# Altium footprint library res.PcbLib: 38 footprints (part 2 of 3)
Each footprint in its own frame and in the unit in brackets; x right, y up, seen from the top. Pads: shape width x height; smd on the part's side, far side on the other; paste and mask are expansions set on the pad; w line width, h text height; cw(c..) or ccw(c..) is an arc to the next point about the centre after c.
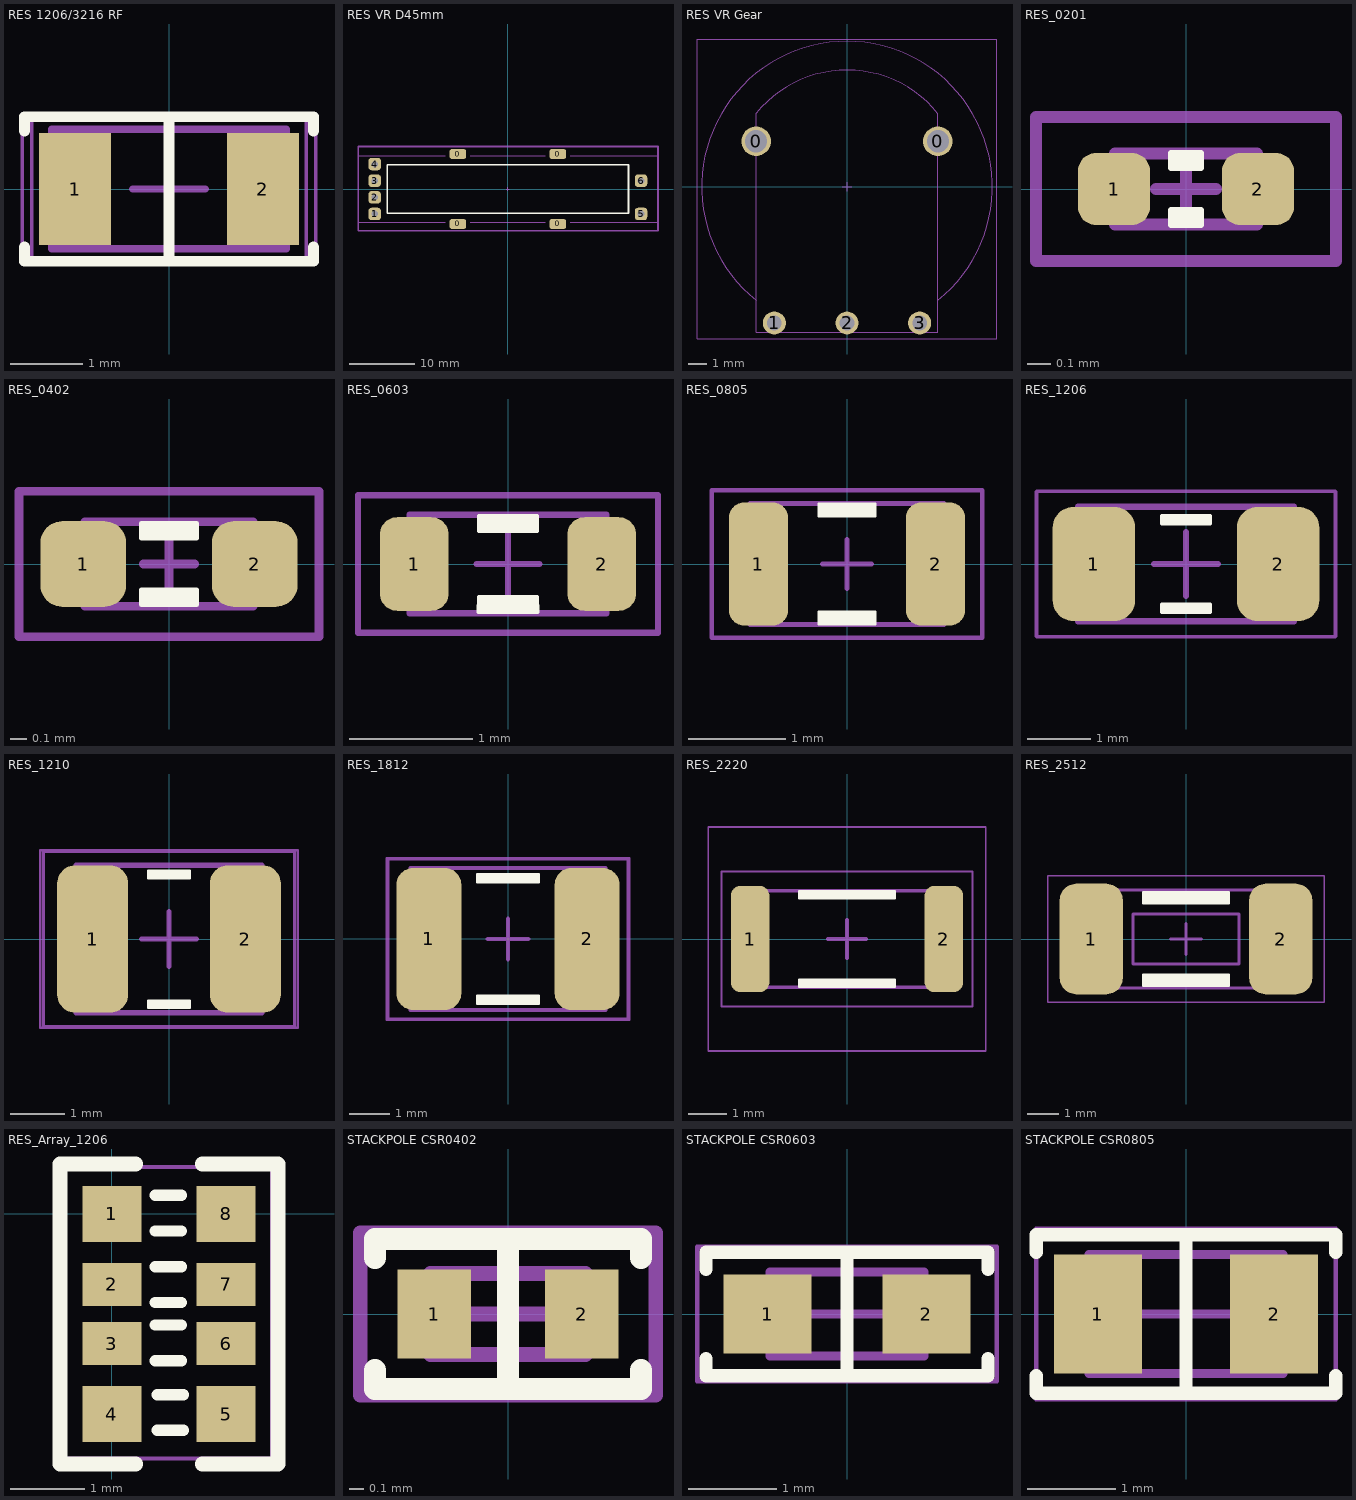
[diagram p1: the footprints below, top view; thin cyan lines are the x and y axes]

## RES 1206/3216 RF [mm] "Chip Resistor, 2-Leads, Body 3.13x1.55mm, IPC High Density"
height 0.7
pads (2):
  rect 1x1.55 smd: 1(-1.3,0) 2(1.3,0)
Top Overlay:
  lines w0.15: -2,-0.8 -2,-1 2,-1 2,-0.8 ; -2,0.8 -2,1 2,1 2,0.8 ; 0,-1 0,1
Mechanical 13:
  lines w0.1: -1.625,-0.825 -1.625,0.825 1.625,0.825 1.625,-0.825 -1.625,-0.825
Top Component:
  lines w0.051: -2.032,-1.016 2.032,-1.016 2.032,1.016 -2.032,1.016 -2.032,-1.016
  text ".Designator" at -0.508,-0.33 h1.52
Comment:
  lines w0.051: -2.032,-1.016 -2.032,1.016 2.032,1.016 2.032,-1.016 -2.032,-1.016
  text "'.Comment'" at -0.508,-0.33 h1.52
Component Center:
  lines w0.05: -1.9,-0.95 -1.9,0.95 1.9,0.95 1.9,-0.95 -1.9,-0.95
  lines w0.1: -0.5,0 0.5,0 ; 0,-0.5 0,0.5
3D body "1206 resistor.STEP": height 0.63, standoff 0.03, extent -1.575,-0.8 1.625,0.8

## RES VR D45mm [mil]
pads (10):
  rrect50% 100x60 smd: 0(-300,-210) 0(-300,210) 0(300,-210) 0(300,210)
  rrect50% 75x75 hole 39.37: 1(-800,-150) 2(-800,-50) 3(-800,50) 4(-800,150) 5(800,-150) 6(800,50)
Top Overlay:
  lines w10: -725,-145 725,-145 725,145 -725,145 -725,-145
Mechanical 13:
  lines w2: -10,0 10,0 ; 0,-10 0,10
  lines w4: -375,-200 -900,-200 -900,200 -375,200 ; -225,-200 225,-200 ; -225,200 225,200 ; 375,-200 900,-200 900,200 375,200
Top Component:
  lines w10: -899,-250 -899,255 902,255 902,-250 -899,-250
  text ".Designator" at -80,-52 h200

## RES VR Gear [mm]
height 0.7
pads (5):
  round 1.626 hole 1.219: 0(-5,2.5) 0(5,2.5)
  round 1.27 hole 0.813: 1(-4,-7.5) 2(0,-7.5) 3(4,-7.5)
Mechanical 13:
  lines w0.051: -5.001,-6.244 cw(c0,0) 5.001,-6.244 ; -5,4.033 -5,-8.001 5,-8.001 5,4.016 ; -4.996,4.029 cw(c0,0) 5.004,4.019 ; -0.254,0 0.254,0 ; 0,-0.254 0,0.254
Top Component:
  lines w0.051: -8.255,-8.382 -8.255,8.128 8.255,8.128 8.255,-8.382 -8.255,-8.382
  text ".Designator" at -2.083,-1.422 h5.08

## RES_0201 [mil]
height 9.06
pads (2):
  rrect50% 12x12 smd: 1(-12,0) 2(12,0)
Top Overlay:
  region: 2.5,-6 -2.5,-6 -2.5,-3.5 2.5,-3.5
  region: -2.5,6 2.5,6 2.5,3.5 -2.5,3.5
  lines w1: -2.5,-6 -2.5,-3.5 2.5,-3.5 2.5,-6 -2.5,-6 ; -2.5,3.5 -2.5,6 2.5,6 2.5,3.5 -2.5,3.5
Mechanical 13:
  lines w2: -5,0 5,0 ; 0,-5 0,5 ; -11.81,-5.91 -11.81,5.91 11.81,5.91 11.81,-5.91 -11.81,-5.91
Top Component:
  lines w2: -25,-12 -25,12 25,12 25,-12 -25,-12
  text ".Designator" at -8,-5 h20
3D body "0201-Resistors.step": height 11.55, standoff 1.51, extent -12.79,-6.39 12.8,6.4

## RES_0402 [mil]
height 13.78
pads (2):
  rrect50% 20x20 smd: 1(-20,0) 2(20,0)
Top Overlay:
  region: -6.5,9.5 6.5,9.5 6.5,6 -6.5,6
  region: 6.5,-9.5 -6.5,-9.5 -6.5,-6 6.5,-6
  lines w1: -6.5,-9.5 -6.5,-6 6.5,-6 6.5,-9.5 -6.5,-9.5 ; -6.5,6 6.5,6 6.5,9.5 -6.5,9.5 -6.5,6
Mechanical 13:
  lines w2: -6,0 6,0 ; 0,-6 0,6 ; -19.69,-9.84 19.68,-9.84 19.68,9.84 -19.69,9.84 -19.69,-9.84
Top Component:
  lines w2: -35,-17 -35,17 35,17 35,-17 -35,-17
  text ".Designator" at -12,-8 h30
3D body "0402-Resistors.step": height 16.27, standoff 1.51, extent -19.78,-10.33 19.79,10.34

## RES_0603 [mil]
height 17.72
pads (2):
  rrect50% 22x30 smd: 1(-30,0) 2(30,0)
Top Overlay:
  region: 9.5,-15.5 -9.5,-15.5 -9.5,-10.5 9.5,-10.5
  region: -9.5,15.5 9.5,15.5 9.5,10.5 -9.5,10.5
  lines w1: -9.5,-15.5 -9.5,-10.5 9.5,-10.5 9.5,-15.5 -9.5,-15.5 ; -9.5,10.5 9.5,10.5 9.5,15.5 -9.5,15.5 -9.5,10.5
Mechanical 13:
  lines w2: -10,0 10,0 ; 0,-10 0,10 ; -31.5,-15.75 31.5,-15.75 31.5,15.75 -31.5,15.75 -31.5,-15.75
Top Component:
  lines w2: -48,-22 -48,22 48,22 48,-22 -48,-22
  text ".Designator" at -16,-11 h40
3D body "0603-Resistors.step": height 20.21, standoff 1.51, extent -31.57,-16.23 31.58,16.25

## RES_0805 [mil]
height 23.62
pads (2):
  rrect50% 24x50 smd: 1(-36,0) 2(36,0)
Top Overlay:
  region: 11.5,-24.5 -11.5,-24.5 -11.5,-19.5 11.5,-19.5
  region: -11.5,24.5 11.5,24.5 11.5,19.5 -11.5,19.5
  lines w1: -11.5,-24.5 11.5,-24.5 11.5,-19.5 -11.5,-19.5 -11.5,-24.5 ; -11.5,19.5 -11.5,24.5 11.5,24.5 11.5,19.5 -11.5,19.5
Mechanical 13:
  lines w2: -10,0 10,0 ; 0,-10 0,10 ; -39.37,-24.61 39.37,-24.61 39.37,24.61 -39.37,24.61 -39.37,-24.61
Top Component:
  lines w2: -55,-30 -55,30 55,30 55,-30 -55,-30
  text ".Designator" at -24,-16 h60
3D body "0805-Resistors.step": height 26.11, standoff 1.51, extent -39.43,-25.09 39.44,25.1

## RES_1206 [mm]
pads (2):
  rrect50% 1.3x1.8 smd: 1(-1.45,0) 2(1.45,0)
Top Overlay:
  region: 0.381,-0.635 -0.381,-0.635 -0.381,-0.762 0.381,-0.762
  region: -0.381,0.635 0.381,0.635 0.381,0.762 -0.381,0.762
  lines w0.051: -0.381,-0.762 0.381,-0.762 0.381,-0.635 -0.381,-0.635 -0.381,-0.762 ; -0.381,0.635 -0.381,0.762 0.381,0.762 0.381,0.635 -0.381,0.635
Mechanical 13:
  lines w0.1: -1.7,-0.9 1.7,-0.9 1.7,0.9 -1.7,0.9 -1.7,-0.9
Top Component:
  lines w0.051: -2.362,-1.143 -2.362,1.143 2.362,1.143 2.362,-1.143 -2.362,-1.143
  text ".Designator" at -0.813,-0.559 h2.03
Component Center:
  lines w0.05: -2.35,-1.15 -2.35,1.15 2.35,1.15 2.35,-1.15 -2.35,-1.15
  lines w0.1: -0.5,0 0.5,0 ; 0,-0.5 0,0.5
3D body "1206-Resistors.step": height 0.66, standoff 0.04, extent -1.602,-0.812 1.602,0.813

## RES_1210 [mm]
pads (2):
  rrect50% 1.3x2.7 smd: 1(-1.4,0) 2(1.4,0)
Top Overlay:
  region: -0.381,1.118 0.381,1.118 0.381,1.245 -0.381,1.245
  region: 0.381,-1.13 -0.381,-1.13 -0.381,-1.257 0.381,-1.257
  lines w0.051: -0.381,-1.257 -0.381,-1.13 0.381,-1.13 0.381,-1.257 -0.381,-1.257 ; -0.381,1.118 0.381,1.118 0.381,1.245 -0.381,1.245 -0.381,1.118
Mechanical 13:
  lines w0.1: -1.7,-1.35 -1.7,1.35 1.7,1.35 1.7,-1.35 -1.7,-1.35
Top Component:
  lines w0.051: -2.362,-1.626 -2.362,1.626 2.362,1.626 2.362,-1.626 -2.362,-1.626
  text ".Designator" at -0.813,-0.559 h2.03
Component Center:
  lines w0.05: -2.3,-1.6 2.3,-1.6 2.3,1.6 -2.3,1.6 -2.3,-1.6
  lines w0.1: -0.5,0 0.5,0 ; 0,-0.5 0,0.5
3D body "1210-Resistors.step": height 0.66, standoff 0.04, extent -1.602,-1.262 1.602,1.263

## RES_1812 [mm]
pads (2):
  rrect50% 1.6x3.5 smd: 1(-1.95,0) 2(1.95,0)
Top Overlay:
  region: -0.762,1.397 -0.762,1.6 0.762,1.6 0.762,1.397
  region: -0.762,-1.397 -0.762,-1.6 0.762,-1.6 0.762,-1.397
  lines w0.051: -0.762,-1.6 -0.762,-1.397 0.762,-1.397 0.762,-1.6 -0.762,-1.6 ; -0.762,1.397 0.762,1.397 0.762,1.6 -0.762,1.6 -0.762,1.397
Mechanical 13:
  lines w0.1: -2.4,-1.75 -2.4,1.75 2.4,1.75 2.4,-1.75 -2.4,-1.75
Top Component:
  lines w0.051: -2.946,-1.956 -2.946,1.956 2.946,1.956 2.946,-1.956 -2.946,-1.956
  text ".Designator" at -0.813,-0.559 h2.03
Component Center:
  lines w0.05: -3,-2 -3,2 3,2 3,-2 -3,-2
  lines w0.1: -0.5,0 0.5,0 ; 0,-0.5 0,0.5
3D body "1812-Resistors.step": height 0.66, standoff 0.04, extent -2.252,-1.612 2.252,1.613

## RES_2220 [mil]
pads (2):
  rrect50% 40x110 smd: 1(-100.39,0) 2(100.39,0)
Top Overlay:
  region: -50,-42 50,-42 50,-50 -50,-50
  region: -50,42 50,42 50,50 -50,50
  lines w2: -50,-50 50,-50 50,-42 -50,-42 -50,-50 ; -50,42 -50,50 50,50 50,42 -50,42
Mechanical 13:
  lines w3.94: -98,-50 99,-50 99,50 -98,50 -98,-50
Top Component:
  lines w2: -130,-70 -130,70 130,70 130,-70 -130,-70
  text ".Designator" at -32,-22 h80
Component Center:
  lines w1.97: -143.7,-116.14 143.7,-116.14 143.7,116.14 -143.7,116.14 -143.7,-116.14
  lines w3.94: -19.68,0 19.68,0 ; 0,-19.69 0,19.68
3D body "2010Resistors.step": height 24.11, standoff -0.49, extent -98.48,-49.7 98.5,49.71

## RES_2512 [mil]
pads (2):
  rrect50% 80x140 smd: 1(-120.01,0) 2(120,0)
Top Overlay:
  region: 55,-45 55,-60 -55,-60 -55,-45
  region: 55,45 55,60 -55,60 -55,45
  lines w2: -55,-60 -55,-45 55,-45 55,-60 -55,-60 ; -55,45 55,45 55,60 -55,60 -55,45
Mechanical 13:
  lines w3.94: -137,-62 136.62,-62 136.62,62 -137,62 -137,-62
Top Component:
  lines w2: -175,-80 -175,80 175,80 175,-80 -175,-80
  text ".Designator" at -32,-22 h80
Component Center:
  lines w3.94: -19.68,0 19.69,0 ; 0,-19.68 0,19.69 ; -66.93,-31.5 66.93,-31.5 66.93,31.5 -66.93,31.5 -66.93,-31.5
3D body "2512-Resistors.step": height 26.11, standoff 1.51, extent -126.05,-63.48 126.05,63.49

## RES_Array_1206 [mm]
pads (8):
  rect 0.8x0.75 smd: 1(0,0) 4(0,-2.7) 5(1.54,-2.7) 8(1.54,0)
  rect 0.8x0.58 smd: 2(0,-0.95) 3(0,-1.75) 6(1.54,-1.75) 7(1.54,-0.95)
Top Overlay:
  lines w0.152: -0.7,0.649 -0.7,0.675 ; 0.584,-1.981 0.94,-1.981 ; 0.584,-1.499 0.94,-1.499 ; 0.584,-1.194 0.94,-1.194 ; 0.584,-0.711 0.94,-0.711 ; 0.584,-0.229 0.94,-0.229 ; 0.584,0.254 0.94,0.254 ; 0.61,-2.921 0.965,-2.921 ; 0.61,-2.438 0.965,-2.438
  lines w0.2: 0.32,-3.375 -0.7,-3.375 -0.7,0.675 0.32,0.675 ; 1.22,-3.375 2.24,-3.375 2.24,0.675 1.22,0.675
Top Component:
  lines w0.051: -0.635,-3.302 -0.635,0.635 2.159,0.635 2.159,-3.302 -0.635,-3.302
  text ".Designator" at 1.041,-1.778 h1.02
3D body "User Library-R1206-4R.step": height 0.59, standoff 0.01, extent -0.013,-2.946 1.587,0.254

## STACKPOLE CSR0402 [mm] "Chip Resistor, 2-Leads, Body 1.0x0.5mm, IPC Medium Density"
height 0.4
pads (2):
  rect 0.5x0.6 smd: 1(-0.5,0) 2(0.5,0)
Top Overlay:
  lines w0.15: -0.9,-0.381 -0.9,-0.508 0.9,-0.508 0.9,-0.381 ; -0.9,0.381 -0.9,0.508 0.9,0.508 0.9,0.381 ; 0,-0.508 0,0.508
Mechanical 13:
  lines w0.1: -0.525,-0.275 -0.525,0.275 0.525,0.275 0.525,-0.275 -0.525,-0.275
Top Component:
  lines w0.051: -1.016,-0.559 1.016,-0.559 1.016,0.559 -1.016,0.559 -1.016,-0.559
  text ".Designator" at -0.203,-0.127 h0.51
Component Center:
  lines w0.1: -0.275,0 0.275,0 ; 0,-0.275 0,0.275 ; -1,-0.55 -1,0.55 1,0.55 1,-0.55 -1,-0.55
3D body "Stackpole CSR0402 Res.STEP": height 0.32, standoff 0, extent -0.525,-0.25 0.525,0.25

## STACKPOLE CSR0603 [mm] "Chip Resistor, 2-Leads, Body 1.60x0.80mm, IPC Medium Density"
height 0.45
pads (2):
  rect 1x0.9 smd: 1(-0.9,0) 2(0.9,0)
Top Overlay:
  lines w0.15: -1.6,-0.508 -1.6,-0.7 1.6,-0.7 1.6,-0.508 ; -1.6,0.508 -1.6,0.7 1.6,0.7 1.6,0.508 ; 0,-0.7 0,0.7
Mechanical 13:
  lines w0.1: -0.875,-0.475 0.875,-0.475 0.875,0.475 -0.875,0.475 -0.875,-0.475
Top Component:
  lines w0.051: -1.702,-0.762 -1.702,0.762 1.702,0.762 1.702,-0.762 -1.702,-0.762
  text ".Designator" at -0.406,-0.279 h1.02
Component Center:
  lines w0.05: -1.7,-0.75 -1.7,0.75 1.7,0.75 1.7,-0.75 -1.7,-0.75
  lines w0.1: -0.475,0 0.475,0 ; 0,-0.475 0,0.475
3D body "Stackpole CSR0603 Res.STEP": height 0.45, standoff 0, extent -0.85,-0.4 0.85,0.4

## STACKPOLE CSR0805 [mm] "Chip Resistor, 2-Leads, Body 2.00x1.25mm, IPC Medium Density"
height 0.7
pads (2):
  rect 1x1.35 smd: 1(-1,0) 2(1,0)
Top Overlay:
  lines w0.15: -1.7,-0.7 -1.7,-0.9 1.7,-0.9 1.7,-0.7 ; -1.7,0.7 -1.7,0.9 1.7,0.9 1.7,0.7 ; 0,-0.9 0,0.9
Mechanical 13:
  lines w0.1: -1.1,-0.675 1.1,-0.675 1.1,0.675 -1.1,0.675 -1.1,-0.675
Top Component:
  lines w0.051: -1.702,-0.965 1.702,-0.965 1.702,0.965 -1.702,0.965 -1.702,-0.965
  text ".Designator" at -0.406,-0.279 h1.02
Component Center:
  lines w0.05: -1.7,-0.95 -1.7,0.95 1.7,0.95 1.7,-0.95 -1.7,-0.95
  lines w0.1: -0.5,0 0.5,0 ; 0,-0.5 0,0.5
3D body "Stackpole CSR0805 Res.STEP": height 0.55, standoff 0, extent -1.05,-0.625 1.05,0.625